# EAGLE library part ATSAMD10C14A (library RoboJackets-ICs)
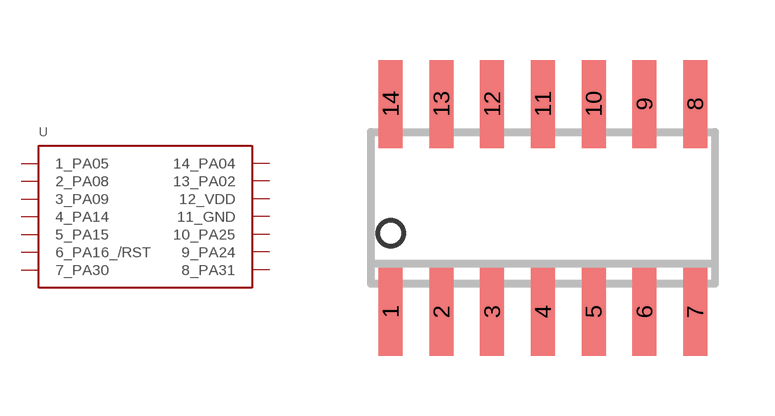
[diagram p12: symbol with the pads of SOIC-14; footprint SOIC-14]

Designator prefix U

## ATSAMD10C14A  [SOIC-14]
1  1_PA05
2  2_PA08
3  3_PA09
4  4_PA14
5  5_PA15
6  6_PA16_/RST
7  7_PA30
8  8_PA31
9  9_PA24
10  10_PA25
11  11_GND
12  12_VDD
13  13_PA02
14  14_PA04

## Footprint SOIC-14 (pad centres in mm)
smd 0.6 x 2.2: 1 -3.81,-2.6; 2 -2.54,-2.6; 3 -1.27,-2.6; 4 0,-2.6; 5 1.27,-2.6; 6 2.54,-2.6; 7 3.81,-2.6; 8 3.81,2.6; 9 2.54,2.6; 10 1.27,2.6; 11 0,2.6; 12 -1.27,2.6; 13 -2.54,2.6; 14 -3.81,2.6